# EAGLE library part PMG001 (library PMG001)
EDrTech PMG001 Power management module. Datasheet: https://github.com/EDrTech/PMG001/blob/main/PMG001_datasheet.pdf
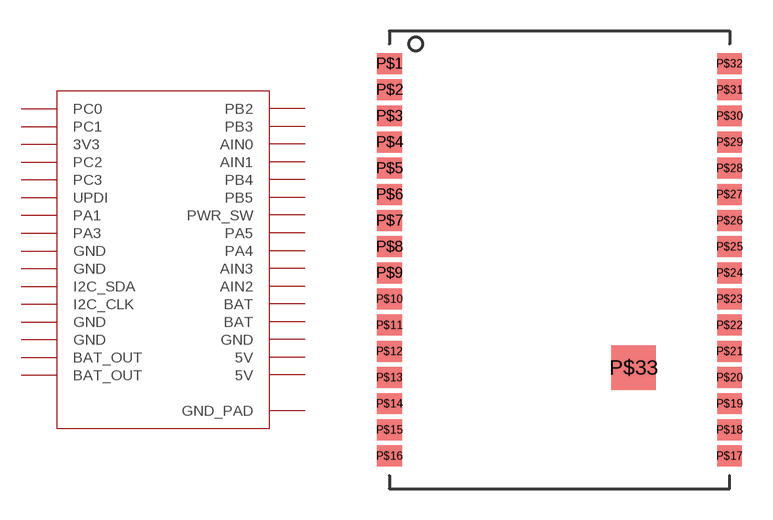
[diagram p0: symbol with the pads of PMG001; footprint PMG001]

Designator prefix -

## PMG001  [PMG001]
P$1  PC0
P$2  PC1
P$3  3V3
P$4  PC2
P$5  PC3
P$6  UPDI
P$7  PA1
P$8  PA3
P$9  GND
P$10  GND
P$11  I2C_SDA
P$12  I2C_CLK
P$13  GND
P$14  GND
P$15  BAT_OUT
P$16  BAT_OUT
P$17  5V
P$18  5V
P$19  GND
P$20  BAT
P$21  BAT
P$22  AIN2
P$23  AIN3
P$24  PA4
P$25  PA5
P$26  PWR_SW
P$27  PB5
P$28  PB4
P$29  AIN1
P$30  AIN0
P$31  PB3
P$32  PB2
P$33  GND_PAD

## Footprint PMG001 (pad centres in mm)
smd 1.194 x 1.016: P$1 -8.255,9.525; P$2 -8.255,8.255; P$3 -8.255,6.985; P$4 -8.255,5.715; P$5 -8.255,4.445; P$6 -8.255,3.175; P$7 -8.255,1.905; P$8 -8.255,0.635; P$9 -8.255,-0.635; P$10 -8.255,-1.905; P$11 -8.255,-3.175; P$12 -8.255,-4.445; P$13 -8.255,-5.715; P$14 -8.255,-6.985; P$15 -8.255,-8.255; P$16 -8.255,-9.525; P$17 8.255,-9.525; P$18 8.255,-8.255; P$19 8.255,-6.985; P$20 8.255,-5.715; P$21 8.255,-4.445; P$22 8.255,-3.175; P$23 8.255,-1.905; P$24 8.255,-0.635; P$25 8.255,0.635; P$26 8.255,1.905; P$27 8.255,3.175; P$28 8.255,4.445; P$29 8.255,5.715; P$30 8.255,6.985; P$31 8.255,8.255; P$32 8.255,9.525
smd 2.15 x 2.15: P$33 3.6,-5.24